# Altium footprint library F4SDR.PcbLib: 69 footprints (part 4 of 5)
Each footprint in its own frame and in the unit in brackets; x right, y up, seen from the top. Pads: shape width x height; smd on the part's side, far side on the other; paste and mask are expansions set on the pad; w line width, h text height; cw(c..) or ccw(c..) is an arc to the next point about the centre after c.
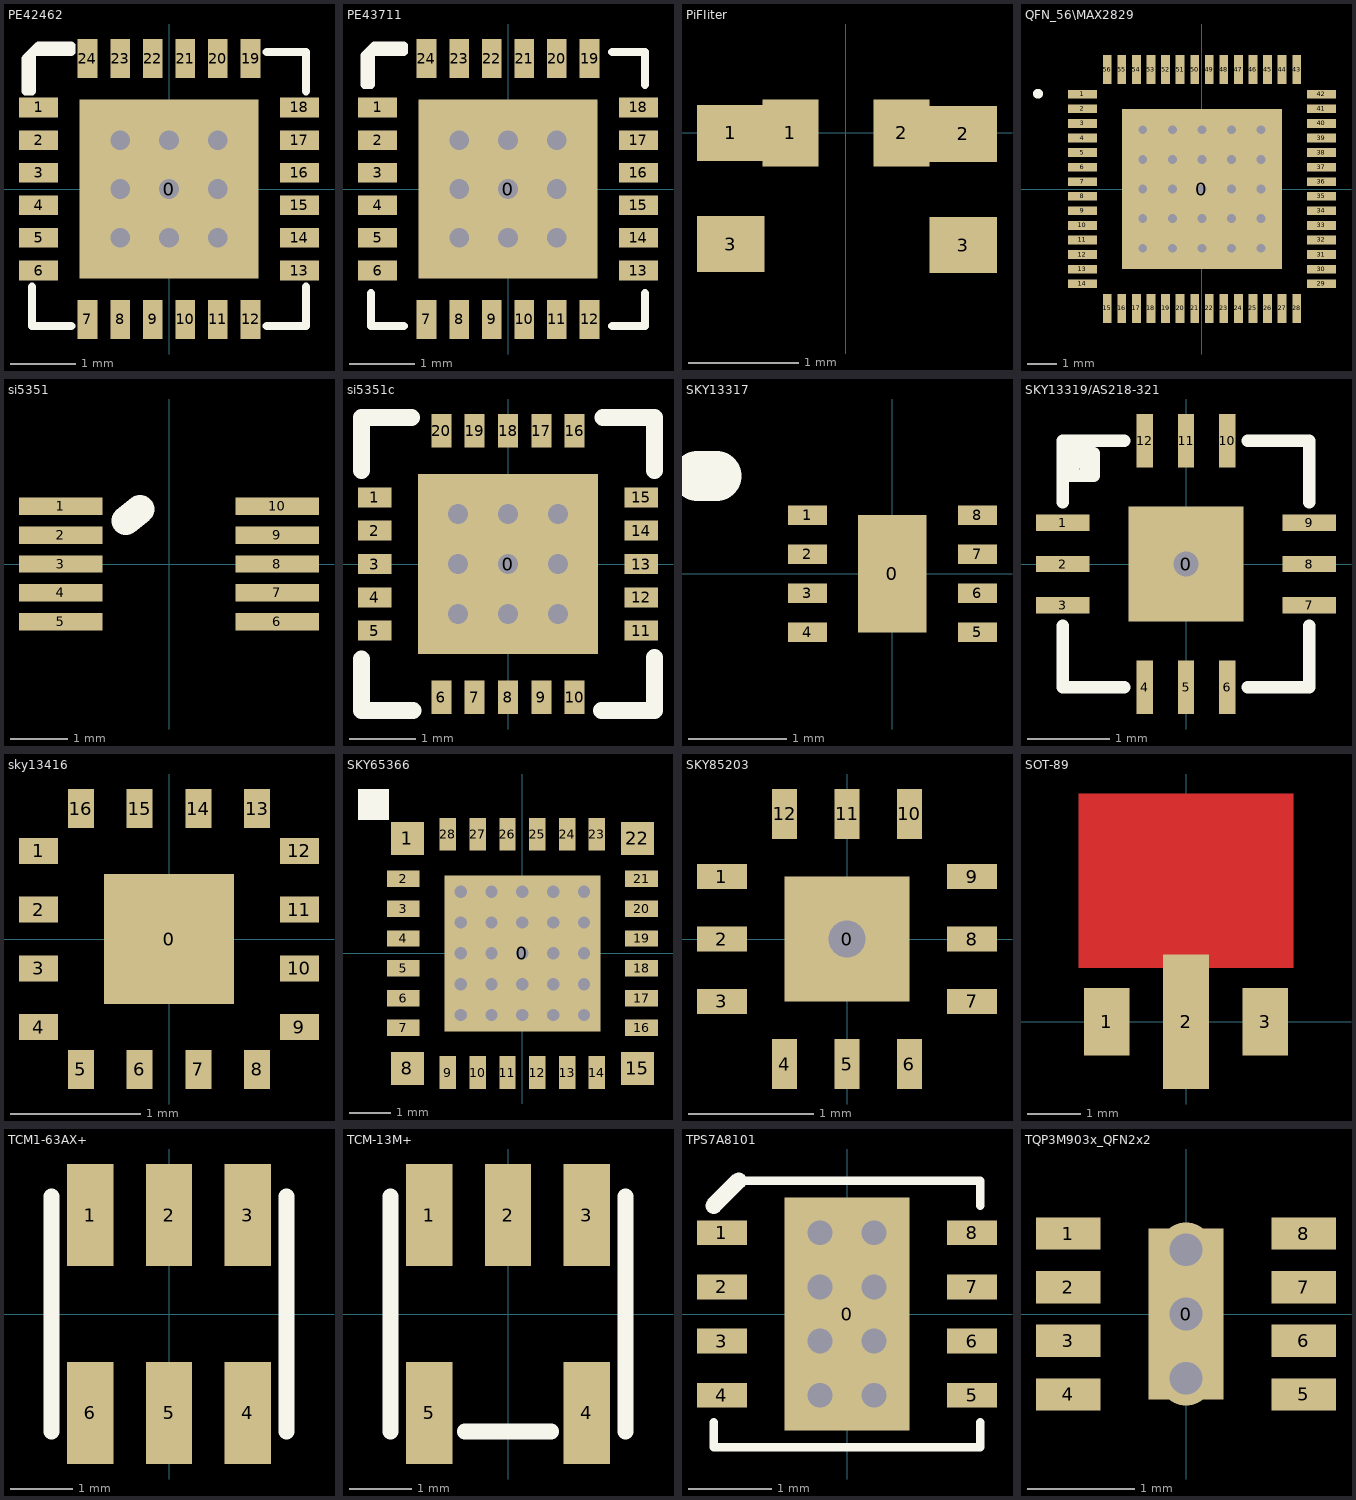
[diagram p3: the footprints below, top view; thin cyan lines are the x and y axes]

## PE42462 [mm]
pads (25):
  rect 2.75x2.75 smd: 0(0,0)
  rect 0.6x0.3 smd: 1(-2,1.25) 2(-2,0.75) 3(-2,0.25) 4(-2,-0.25) 5(-2,-0.75) 6(-2,-1.25) 13(2,-1.25) 14(2,-0.75) 15(2,-0.25) 16(2,0.25) 17(2,0.75) 18(2,1.25)
  rect 0.3x0.6 smd: 7(-1.25,-2) 8(-0.75,-2) 9(-0.25,-2) 10(0.25,-2) 11(0.75,-2) 12(1.25,-2) 19(1.25,2) 20(0.75,2) 21(0.25,2) 22(-0.25,2) 23(-0.75,2) 24(-1.25,2)
via 0,0 diameter 0.45 hole 0.3
via 0.75,0 diameter 0.45 hole 0.3
via 0.75,0.75 diameter 0.45 hole 0.3
via 0,0.75 diameter 0.45 hole 0.3
via -0.75,0.75 diameter 0.45 hole 0.3
via -0.75,0 diameter 0.45 hole 0.3
via -0.75,-0.75 diameter 0.45 hole 0.3
via 0,-0.75 diameter 0.45 hole 0.3
via 0.75,-0.75 diameter 0.45 hole 0.3
Top Overlay:
  lines w0.127: -2.1,-1.5 -2.1,-2.1 -1.5,-2.1 ; 1.5,-2.1 2.1,-2.1 2.1,-1.5 ; 1.5,2.1 2.1,2.1 2.1,1.5 ; -2.2,1.5 -2.2,2 -2,2.2 -1.5,2.2 -1.5,2.1 -2.1,2.1 -2.1,1.5 -2.2,1.5
3D body: height 0.85, standoff 0, extent -2,-2 2,2

## PE43711 [mm]
pads (25):
  rect 2.75x2.75 smd: 0(0,0)
  rect 0.6x0.3 smd: 1(-2,1.25) 2(-2,0.75) 3(-2,0.25) 4(-2,-0.25) 5(-2,-0.75) 6(-2,-1.25) 13(2,-1.25) 14(2,-0.75) 15(2,-0.25) 16(2,0.25) 17(2,0.75) 18(2,1.25)
  rect 0.3x0.6 smd: 7(-1.25,-2) 8(-0.75,-2) 9(-0.25,-2) 10(0.25,-2) 11(0.75,-2) 12(1.25,-2) 19(1.25,2) 20(0.75,2) 21(0.25,2) 22(-0.25,2) 23(-0.75,2) 24(-1.25,2)
via -0.75,0.75 diameter 0.45 hole 0.3
via 0,0 diameter 0.45 hole 0.3
via 0,0.75 diameter 0.45 hole 0.3
via 0.75,0.75 diameter 0.45 hole 0.3
via 0.75,0 diameter 0.45 hole 0.3
via 0.75,-0.75 diameter 0.45 hole 0.3
via 0,-0.75 diameter 0.45 hole 0.3
via -0.75,-0.75 diameter 0.45 hole 0.3
via -0.75,0 diameter 0.45 hole 0.3
Top Overlay:
  lines w0.127: -2.1,-1.6 -2.1,-2.1 -1.6,-2.1 ; 1.6,-2.1 2.1,-2.1 2.1,-1.6 ; 1.6,2.1 2.1,2.1 2.1,1.6 ; -2.2,1.6 -2.1,1.6 -2.1,2.1 -1.6,2.1 -1.6,2.2 -2.05,2.2 -2.2,2.05 -2.2,1.6
3D body: height 0.85, standoff 0, extent -2,-2 2,2

## PiFIiter [mil]
pads (6):
  rect 24x20 smd: 1(-41,0) 2(42,-0.32) 3(-41,-39.69) 3(42,-40)
  rect 20x24 smd: 1(-19.68,0) 2(20,0)

## QFN_56\MAX2829 [mm]
height 0.8
pads (57):
  rect 5.5x5.5 smd: 0(0,0)
  rect 1x0.3 smd: 1(-4.1,3.25) 2(-4.1,2.75) 3(-4.1,2.25) 4(-4.1,1.75) 5(-4.1,1.25) 6(-4.1,0.75) 7(-4.1,0.25) 8(-4.1,-0.25) 9(-4.1,-0.75) 10(-4.1,-1.25) 11(-4.1,-1.75) 12(-4.1,-2.25) 13(-4.1,-2.75) 14(-4.1,-3.25) 29(4.1,-3.25) 30(4.1,-2.75) 31(4.1,-2.25) 32(4.1,-1.75) 33(4.1,-1.25) 34(4.1,-0.75) 35(4.1,-0.25) 36(4.1,0.25) 37(4.1,0.75) 38(4.1,1.25) 39(4.1,1.75) 40(4.1,2.25) 41(4.1,2.75) 42(4.1,3.25)
  rect 0.3x1 smd: 15(-3.25,-4.1) 16(-2.75,-4.1) 17(-2.25,-4.1) 18(-1.75,-4.1) 19(-1.25,-4.1) 20(-0.75,-4.1) 21(-0.25,-4.1) 22(0.25,-4.1) 23(0.75,-4.1) 24(1.25,-4.1) 25(1.75,-4.1) 26(2.25,-4.1) 27(2.75,-4.1) 28(3.25,-4.1) 43(3.25,4.1) 44(2.75,4.1) 45(2.25,4.1) 46(1.75,4.1) 47(1.25,4.1) 48(0.75,4.1) 49(0.25,4.1) 50(-0.25,4.1) 51(-0.75,4.1) 52(-1.25,4.1) 53(-1.75,4.1) 54(-2.25,4.1) 55(-2.75,4.1) 56(-3.25,4.1)
via 0,0 diameter 0.508 hole 0.305
via 0,1.016 diameter 0.508 hole 0.305
via 0,2.032 diameter 0.508 hole 0.305
via 1.016,2.032 diameter 0.508 hole 0.305
via 1.016,1.016 diameter 0.508 hole 0.305
via 1.016,0 diameter 0.508 hole 0.305
via 1.016,-1.016 diameter 0.508 hole 0.305
via 0,-1.016 diameter 0.508 hole 0.305
via -1.016,-1.016 diameter 0.508 hole 0.305
via -1.016,0 diameter 0.508 hole 0.305
via -1.016,1.016 diameter 0.508 hole 0.305
via -1.016,2.032 diameter 0.508 hole 0.305
via -2.032,2.032 diameter 0.508 hole 0.305
via -2.032,1.016 diameter 0.508 hole 0.305
via -2.032,0 diameter 0.508 hole 0.305
via -2.032,-1.016 diameter 0.508 hole 0.305
via -2.032,-2.032 diameter 0.508 hole 0.305
via -1.016,-2.032 diameter 0.508 hole 0.305
via 0,-2.032 diameter 0.508 hole 0.305
via 1.016,-2.032 diameter 0.508 hole 0.305
via 2.032,-2.032 diameter 0.508 hole 0.305
via 2.032,-1.016 diameter 0.508 hole 0.305
via 2.032,0 diameter 0.508 hole 0.305
via 2.032,1.016 diameter 0.508 hole 0.305
via 2.032,2.032 diameter 0.508 hole 0.305
Top Overlay:
  circle w0.203: c-5.628,3.27 r0.067
  lines w0.025: -0.25,0 0.25,0 ; 0,-0.25 0,0.25
3D body: height 0.75, standoff 0, extent -4,-4 4,4

## si5351 [mm]
height 1
pads (10):
  rect 1.45x0.3 smd: 1(-1.875,1) 2(-1.875,0.5) 3(-1.875,0) 4(-1.875,-0.5) 5(-1.875,-1) 6(1.875,-1) 7(1.875,-0.5) 8(1.875,0) 9(1.875,0.5) 10(1.875,1)
Top Overlay:
  lines w0.5: -0.75,0.75 -0.5,0.95

## si5351c [mm]
pads (21):
  rect 2.7x2.7 smd: 0(0,0)
  rect 0.5x0.3 smd: 1(-2,1) 2(-2,0.5) 3(-2,0) 4(-2,-0.5) 5(-2,-1) 11(2,-1) 12(2,-0.5) 13(2,0) 14(2,0.5) 15(2,1)
  rect 0.3x0.5 smd: 6(-1,-2) 7(-0.5,-2) 8(0,-2) 9(0.5,-2) 10(1,-2) 16(1,2) 17(0.5,2) 18(0,2) 19(-0.5,2) 20(-1,2)
via 0,0 diameter 0.5 hole 0.3
via 0.75,0 diameter 0.5 hole 0.3
via 0.75,0.75 diameter 0.5 hole 0.3
via 0,0.75 diameter 0.5 hole 0.3
via -0.75,0.75 diameter 0.5 hole 0.3
via -0.75,0 diameter 0.5 hole 0.3
via -0.75,-0.75 diameter 0.5 hole 0.3
via 0,-0.75 diameter 0.5 hole 0.3
via 0.75,-0.75 diameter 0.5 hole 0.3
Top Overlay:
  lines w0.254: -2.2,-1.425 -2.2,-2.2 -1.425,-2.2 ; -2.2,1.4 -2.2,2.2 -1.45,2.2 ; 1.4,-2.2 2.2,-2.2 2.2,-1.4 ; 1.425,2.2 2.2,2.2 2.2,1.4
  text "." at -2.413,2.083 h2
3D body: height 0.65, standoff 0, extent -2,-2 2,2

## SKY13317 [mm]
pads (9):
  rect 0.7x1.2 smd: 0(0,0)
  rect 0.4x0.2 smd: 1(-0.87,0.6) 2(-0.87,0.2) 3(-0.87,-0.2) 4(-0.87,-0.6) 5(0.87,-0.6) 6(0.87,-0.2) 7(0.87,0.2) 8(0.87,0.6)
Top Overlay:
  lines w0.508: -2,1 -1.8,1
3D body: height 0.45, standoff 0, extent -0.75,-0.75 0.75,0.75

## SKY13319/AS218-321 [mm]
pads (13):
  rect 1.4x1.4 smd: 0(0,0)
  rect 0.65x0.2 smd: 1(-1.5,0.5) 2(-1.5,0) 3(-1.5,-0.5) 7(1.5,-0.5) 8(1.5,0) 9(1.5,0.5)
  rect 0.2x0.65 smd: 4(-0.5,-1.5) 5(0,-1.5) 6(0.5,-1.5) 10(0.5,1.5) 11(0,1.5) 12(-0.5,1.5)
via 0,0 diameter 0.5 hole 0.3
Top Overlay:
  lines w0.152: -1.5,-0.75 -1.5,-1.5 -0.75,-1.5 ; -1.5,0.75 -1.5,1.5 ; -1.5,1.075 -1.125,1.075 ; -1.375,1.075 -1.375,1.35 -1.125,1.35 -1.125,1.075 ; -0.75,1.5 -1.5,1.5 ; 0.75,-1.5 1.5,-1.5 1.5,-0.75 ; 0.75,1.5 1.5,1.5 1.5,0.75 ; -1.5,1.5 -1.125,1.075

## sky13416 [mm]
pads (17):
  rect 1x1 smd: 0(0,0)
  rect 0.3x0.2 smd: 1(-1,0.675) 2(-1,0.225) 3(-1,-0.225) 4(-1,-0.675) 9(1,-0.675) 10(1,-0.225) 11(1,0.225) 12(1,0.675)
  rect 0.2x0.3 smd: 5(-0.675,-1) 6(-0.225,-1) 7(0.225,-1) 8(0.675,-1) 13(0.675,1) 14(0.225,1) 15(-0.225,1) 16(-0.675,1)
3D body: height 0.55, standoff 0, extent -1,-1 1,1

## SKY65366 [mm]
pads (29):
  rect 3.8x3.8 smd: 0(0,0)
  rect 0.8x0.8 smd: 1(-2.8,2.8) 8(-2.8,-2.8) 15(2.8,-2.8) 22(2.8,2.8)
  rect 0.8x0.4 smd: 2(-2.9,1.813) 3(-2.9,1.088) 4(-2.9,0.363) 5(-2.9,-0.362) 6(-2.9,-1.087) 7(-2.9,-1.812) 16(2.9,-1.812) 17(2.9,-1.087) 18(2.9,-0.362) 19(2.9,0.363) 20(2.9,1.088) 21(2.9,1.813)
  rect 0.4x0.8 smd: 9(-1.813,-2.9) 10(-1.088,-2.9) 11(-0.363,-2.9) 12(0.362,-2.9) 13(1.087,-2.9) 14(1.812,-2.9) 23(1.812,2.9) 24(1.087,2.9) 25(0.362,2.9) 26(-0.363,2.9) 27(-1.088,2.9) 28(-1.813,2.9)
via -1.5,1.5 diameter 0.5 hole 0.3
via -0.75,1.5 diameter 0.5 hole 0.3
via 0.75,1.5 diameter 0.5 hole 0.3
via 1.5,1.5 diameter 0.5 hole 0.3
via 1.5,0.75 diameter 0.5 hole 0.3
via 0.75,0.75 diameter 0.5 hole 0.3
via -0.75,0.75 diameter 0.5 hole 0.3
via -1.5,0.75 diameter 0.5 hole 0.3
via -1.5,-1.5 diameter 0.5 hole 0.3
via -1.5,-0.75 diameter 0.5 hole 0.3
via -0.75,-0.75 diameter 0.5 hole 0.3
via -0.75,-1.5 diameter 0.5 hole 0.3
via 1.5,-1.5 diameter 0.5 hole 0.3
via 0.75,-1.5 diameter 0.5 hole 0.3
via 1.5,-0.75 diameter 0.5 hole 0.3
via 0.75,-0.75 diameter 0.5 hole 0.3
via 0,-0.75 diameter 0.5 hole 0.3
via 0,-1.5 diameter 0.5 hole 0.3
via -1.5,0 diameter 0.5 hole 0.3
via -0.75,0 diameter 0.5 hole 0.3
via 1.5,0 diameter 0.5 hole 0.3
via 0.75,0 diameter 0.5 hole 0.3
via 0,1.5 diameter 0.5 hole 0.3
via 0,0.75 diameter 0.5 hole 0.3
via 0,0 diameter 0.5 hole 0.3
Top Overlay:
  rectangle: -4,3.25 -3.25,4
3D body: height 0.6, standoff 0, extent -3,-3 3,3

## SKY85203 [mm]
pads (13):
  rect 1x1 smd: 0(0,0)
  rect 0.4x0.2 smd: 1(-1,0.5) 2(-1,0) 3(-1,-0.5) 7(1,-0.5) 8(1,0) 9(1,0.5)
  rect 0.2x0.4 smd: 4(-0.5,-1) 5(0,-1) 6(0.5,-1) 10(0.5,1) 11(0,1) 12(-0.5,1)
via 0,0 diameter 0.5 hole 0.3

## SOT-89 [mil]
pads (3):
  rect 34x50 smd: 1(-59.06,0) 3(59.06,0)
  rect 34x100 smd: 2(0,0)
Top Layer:
  rectangle: -80,40 80,170
Top Solder:
  rectangle: -82.68,35.43 82.68,173.23
3D body "SOT-89.STEP": height 59.45, standoff 0, extent -88.58,-21.99 88.59,147.3

## TCM1-63AX+ [mm]
pads (6):
  rect 0.75x1.65 smd: 1(-1.27,1.6) 2(0,1.6) 3(1.27,1.6) 4(1.27,-1.6) 5(0,-1.6) 6(-1.27,-1.6)
Top Overlay:
  lines w0.254: -1.9,-1.9 -1.9,1.9 ; 1.9,-1.9 1.9,1.9

## TCM-13M+ [mm]
pads (5):
  rect 0.75x1.65 smd: 1(-1.27,1.6) 2(0,1.6) 3(1.27,1.6) 4(1.27,-1.6) 5(-1.27,-1.6)
Top Overlay:
  lines w0.254: -1.9,-1.9 -1.9,1.9 ; -0.7,-1.9 0.7,-1.9 ; 1.9,-1.9 1.9,1.9

## TPS7A8101 [mm]
pads (9):
  rect 1.5x2.8 smd: 0(0,0)
  rect 0.6x0.3 smd: 1(-1.5,0.975) 2(-1.5,0.325) 3(-1.5,-0.325) 4(-1.5,-0.975) 5(1.5,-0.975) 6(1.5,-0.325) 7(1.5,0.325) 8(1.5,0.975)
via -0.325,-0.325 diameter 0.5 hole 0.3
via 0.325,-0.325 diameter 0.5 hole 0.3
via 0.325,0.325 diameter 0.5 hole 0.3
via -0.325,0.325 diameter 0.5 hole 0.3
via -0.325,0.975 diameter 0.5 hole 0.3
via 0.325,0.975 diameter 0.5 hole 0.3
via -0.325,-0.975 diameter 0.5 hole 0.3
via 0.325,-0.975 diameter 0.5 hole 0.3
Top Overlay:
  lines w0.1: -1.6,-1.3 -1.6,-1.6 1.6,-1.6 1.6,-1.3 ; -1.3,1.6 1.6,1.6 1.6,1.3
  lines w0.2: -1.6,1.3 -1.3,1.6
3D body: height 0.6, standoff 0, extent -1.5,-1.5 1.5,1.5

## TQP3M903x_QFN2x2 [mm]
pads (9):
  rect 0.7x1.6 smd: 0(0,0)
  rect 0.6x0.3 smd: 1(-1.1,0.75) 2(-1.1,0.25) 3(-1.1,-0.25) 4(-1.1,-0.75) 5(1.1,-0.75) 6(1.1,-0.25) 7(1.1,0.25) 8(1.1,0.75)
via 0,0 diameter 0.508 hole 0.305
via 0,0.6 diameter 0.508 hole 0.305
via 0,-0.6 diameter 0.508 hole 0.305
3D body: height 0.85, standoff 0, extent -1,-1 1,1